# EAGLE library part MS9288A (library we-chip)
MacroSilicon MS9288A VGA to HDMI Converter
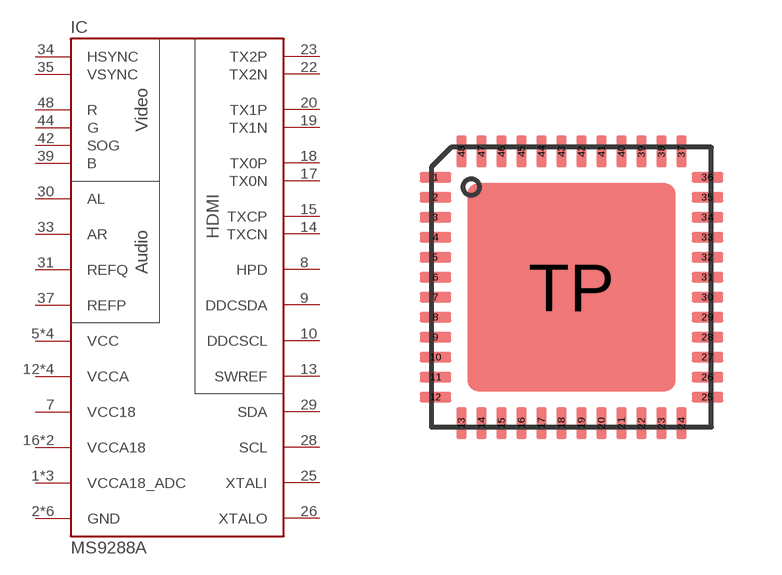
[diagram p60: symbol with the pads of QFN48-PAD; footprint QFN48-PAD]

Designator prefix IC

## MS9288A  [QFN48-PAD]
1  VCCA18_ADC  pwr
2  GND  pwr
5  VCC  pwr
6  GND  pwr
7  VCC18  pwr
8  HPD  in
9  DDCSDA
10  DDCSCL
11  VCC  pwr
12  VCCA  pwr
13  SWREF  pas
14  TXCN  out
15  TXCP  out
16  VCCA18  pwr
17  TX0N  out
18  TX0P  out
19  TX1N  out
20  TX1P  out
21  VCCA18  pwr
22  TX2N  out
23  TX2P  out
24  VCC  pwr
25  XTALI  in
26  XTALO  in
27  GND  pwr
28  SCL
29  SDA
30  AL  pas
31  REFQ  pas
33  AR  pas
34  HSYNC  in
35  VSYNC  in
36  VCC  pwr
37  REFP  pas
38  VCCA  pwr
39  B  in
40  GND  pwr
41  VCCA18_ADC  pwr
42  SOG  in
43  VCCA  pwr
44  G  in
45  GND  pwr
46  VCCA18_ADC  pwr
47  VCCA  pwr
48  R  in
TP  GND  pwr

## Footprint QFN48-PAD (pad centres in mm)
smd 0.8 x 0.26: 1 -3.4,2.75; 2 -3.4,2.25; 3 -3.4,1.75; 4 -3.4,1.25; 5 -3.4,0.75; 6 -3.4,0.25; 7 -3.4,-0.25; 8 -3.4,-0.75; 9 -3.4,-1.25; 10 -3.4,-1.75; 11 -3.4,-2.25; 12 -3.4,-2.75; 25 3.4,-2.75; 26 3.4,-2.25; 27 3.4,-1.75; 28 3.4,-1.25; 29 3.4,-0.75; 30 3.4,-0.25; 31 3.4,0.25; 32 3.4,0.75; 33 3.4,1.25; 34 3.4,1.75; 35 3.4,2.25; 36 3.4,2.75
smd 0.26 x 0.8: 13 -2.75,-3.4; 14 -2.25,-3.4; 15 -1.75,-3.4; 16 -1.25,-3.4; 17 -0.75,-3.4; 18 -0.25,-3.4; 19 0.25,-3.4; 20 0.75,-3.4; 21 1.25,-3.4; 22 1.75,-3.4; 23 2.25,-3.4; 24 2.75,-3.4; 37 2.75,3.4; 38 2.25,3.4; 39 1.75,3.4; 40 1.25,3.4; 41 0.75,3.4; 42 0.25,3.4; 43 -0.25,3.4; 44 -0.75,3.4; 45 -1.25,3.4; 46 -1.75,3.4; 47 -2.25,3.4; 48 -2.75,3.4
smd 5.2 x 5.2: TP 0,0